# EAGLE library part SE2576L (library custom)
RF Power Amplifier 2.4GHz 32dBm P1dB 33dB Gain 4.5-5.5V 650mA
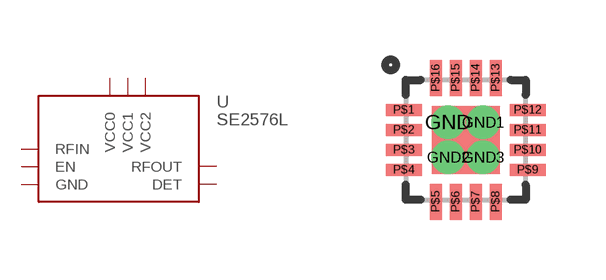
[diagram p97: symbol with the pads of 16-VQFN; footprint 16-VQFN]

Designator prefix U

## SE2576L  [16-VQFN]
GND  GND
GND1  GND
GND2  GND
GND3  GND
P$1  RFIN
P$2  EN
P$3  GND
P$4  VCC0
P$5  GND
P$6  GND
P$7  DET
P$9  GND
P$10  RFOUT
P$11  RFOUT
P$12  GND
P$13  VCC2
P$15  VCC1
P$16  GND

## Footprint 16-VQFN (pad centres in mm)
drill 0.33: GND -0.438,0.438; GND1 0.438,0.438; GND2 -0.438,-0.438; GND3 0.438,-0.438
smd 0.9 x 0.3: P$1 -1.55,0.75; P$2 -1.55,0.25; P$3 -1.55,-0.25; P$4 -1.55,-0.75; P$9 1.55,-0.75; P$10 1.55,-0.25; P$11 1.55,0.25; P$12 1.55,0.75
smd 0.3 x 0.9: P$5 -0.75,-1.55; P$6 -0.25,-1.55; P$7 0.25,-1.55; P$8 0.75,-1.55; P$13 0.75,1.55; P$14 0.25,1.55; P$15 -0.25,1.55; P$16 -0.75,1.55